# EAGLE library part AS6C6264-8KX8BIT-CMOS (library ICs)
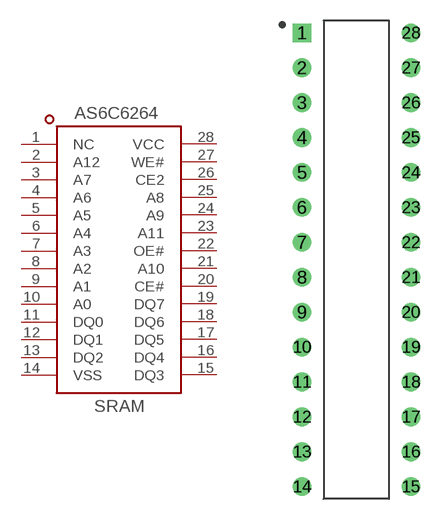
[diagram p20: symbol with the pads of DIP794W46P254L2967H457Q28B; footprint DIP794W46P254L2967H457Q28B]

Designator prefix -

## AS6C6264-8KX8BIT-CMOS  [DIP794W46P254L2967H457Q28B]
1  NC  nc
2  A12  in
3  A7  in
4  A6  in
5  A5  in
6  A4  in
7  A3  in
8  A2  in
9  A1  in
10  A0  in
11  DQ0
12  DQ1
13  DQ2
14  VSS  pwr
15  DQ3
16  DQ4
17  DQ5
18  DQ6
19  DQ7
20  CE#  in
21  A10  in
22  OE#  in
23  A11  in
24  A9  in
25  A8  in
26  CE2  in
27  WE#  in
28  VCC  pwr

## Footprint DIP794W46P254L2967H457Q28B (pad centres in mm)
drill 0.85 square: 1 -3.96,16.51
drill 0.85: 2 -3.96,13.97; 3 -3.96,11.43; 4 -3.96,8.89; 5 -3.96,6.35; 6 -3.96,3.81; 7 -3.96,1.27; 8 -3.96,-1.27; 9 -3.96,-3.81; 10 -3.96,-6.35; 11 -3.96,-8.89; 12 -3.96,-11.43; 13 -3.96,-13.97; 14 -3.96,-16.51; 15 3.96,-16.51; 16 3.96,-13.97; 17 3.96,-11.43; 18 3.96,-8.89; 19 3.96,-6.35; 20 3.96,-3.81; 21 3.96,-1.27; 22 3.96,1.27; 23 3.96,3.81; 24 3.96,6.35; 25 3.96,8.89; 26 3.96,11.43; 27 3.96,13.97; 28 3.96,16.51